# EAGLE library part MICROBUILDER_LC709203F (library TG-Watch02B-rev04)
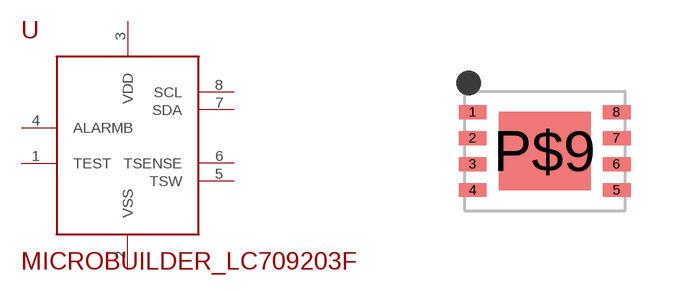
[diagram p9: symbol with the pads of MICROBUILDER_WDFN8_3X4_0.65; footprint MICROBUILDER_WDFN8_3X4_0.65]

Designator prefix -

## MICROBUILDER_LC709203F  [MICROBUILDER_WDFN8_3X4_0.65]
1  TEST
2  VSS  pwr
3  VDD  pwr
4  ALARMB  out
5  TSW  in
6  TSENSE  sup
7  SDA
8  SCL

## Footprint MICROBUILDER_WDFN8_3X4_0.65 (pad centres in mm)
smd 0.7 x 0.35: 1 -1.8,0.975; 2 -1.8,0.325; 3 -1.8,-0.325; 4 -1.8,-0.975; 5 1.8,-0.975; 6 1.8,-0.325; 7 1.8,0.325; 8 1.8,0.975
smd 2.3 x 1.96: P$9 0,0